# Altium footprint library AudioAmplifier.PcbLib: 7 footprints
Each footprint in its own frame and in the unit in brackets; x right, y up, seen from the top. Pads: shape width x height; smd on the part's side, far side on the other; paste and mask are expansions set on the pad; w line width, h text height; cw(c..) or ccw(c..) is an arc to the next point about the centre after c.
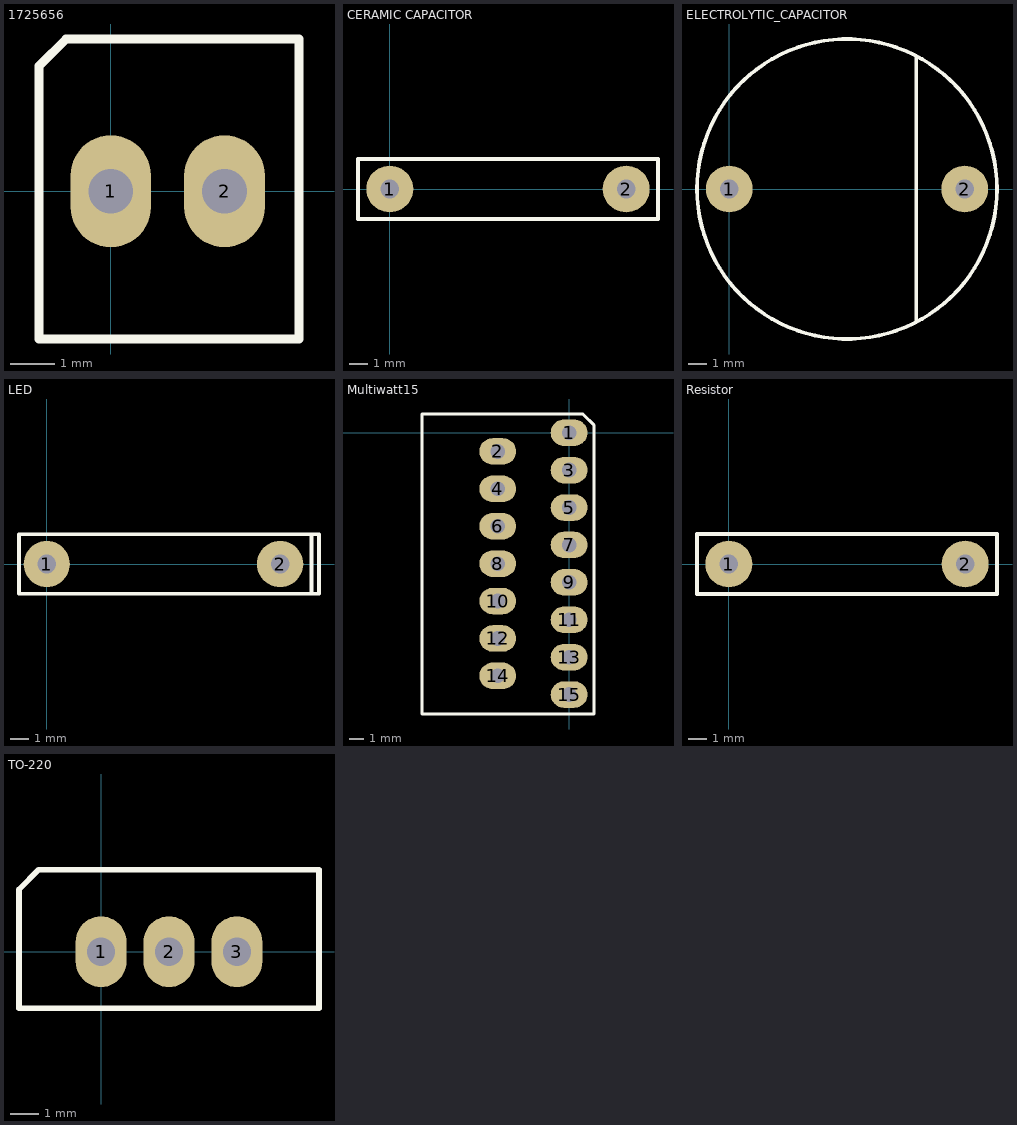
[diagram p0: the footprints below, top view; thin cyan lines are the x and y axes]

## 1725656 [mm]
pads (2):
  oval 1.8x2.5 hole 1: 1(0,0) 2(2.54,0)
Top Overlay:
  lines w0.2: -1.6,-3.3 4.2,-3.3 4.2,3.4 -1,3.4 -1.6,2.8 -1.6,-3.3
3D body: height 8.5, standoff -3.5, extent -1.47,-3.2 4.07,3.3

## CERAMIC CAPACITOR [mm]
pads (2):
  round 2.5 hole 1: 1(0,0) 2(12.6,0)
Top Overlay:
  lines w0.2: -1.7,-1.6 14.3,-1.6 14.3,1.6 -1.7,1.6 -1.7,-1.6

## ELECTROLYTIC_CAPACITOR [mm]
pads (2):
  round 2.5 hole 1: 1(0,0) 2(12.6,0)
Top Overlay:
  circle w0.2: c6.3,0 r8.022
  lines w0.2: 10,-7.1 10,7.1

## LED [mm]
pads (2):
  round 2.5 hole 1: 1(0,0) 2(12.6,0)
Top Overlay:
  lines w0.2: 14.3,-1.6 14.3,1.6 ; -1.5,-1.6 14.7,-1.6 14.7,1.6 -1.5,1.6 -1.5,-1.6

## Multiwatt15 [mm]
pads (15):
  oval 2.5x1.8 hole 1: 1(0,0) 2(-4.85,-1.27) 3(0,-2.54) 4(-4.85,-3.81) 5(0,-5.08) 6(-4.85,-6.35) 7(0,-7.62) 8(-4.85,-8.89) 9(0,-10.16) 10(-4.85,-11.43) 11(0,-12.7) 12(-4.85,-13.97) 13(0,-15.24) 14(-4.85,-16.51) 15(0,-17.78)
Top Overlay:
  lines w0.2: -10,-19.1 1.7,-19.1 1.7,0.5 0.93,1.27 -10,1.27 -10,-19.1
3D body: height 21.3, standoff -1, extent -9.6,-18.7 0.29,0.9

## Resistor [mm]
pads (2):
  round 2.5 hole 1: 1(0,0) 2(12.6,0)
Top Overlay:
  lines w0.2: -1.7,-1.6 14.3,-1.6 14.3,1.6 -1.7,1.6 -1.7,-1.6

## TO-220 [mm]
pads (3):
  oval 1.8x2.5 hole 1: 1(0,0) 2(2.4,0) 3(4.8,0)
Top Overlay:
  lines w0.2: -2.9,-2 -2.9,2.2 -2.2,2.9 7.7,2.9 7.7,-2 -2.9,-2
3D body: height 19.56, standoff -9.24, extent -2.7,-1.8 7.5,2.7